# Altium schematic symbol library switch_slide.SchLib: 2 symbols
Pins are listed as number, name and electrical type; pins without a type are passive.

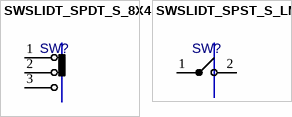
[diagram p0: symbols SWSLIDT_SPDT_S_8X4 to SWSLIDT_SPST_S_LMS]

## SWSLIDT_SPDT_S_8X4
designator SW?, comment SlideSwitch  (value not drawn)
SWITCH, SLIDE, SPDT, 8.6X4.3mm, THD; MANF_PART#: OS102011MS2QN1; MANF: C&K; DESC: DESCRIPTION; VALUE: SlideSwitch; ASSEMBLY: ASSEMBLY; PARAM: PARAM; PRICE: 0.4$
footprint SWSLIDT_SPDT_S_8X4 (Switch, Slide, SPDT, Straight, THD, 8.6X4.3mm)
pins: 1 P1, 2 P3, 3 P4

## SWSLIDT_SPST_S_LMS
designator SW?, comment SlideSwitch  (value not drawn)
SWITCH, SLIDE, SMD, SPST, THD; MANF_PART#: L101011MS02Q; MANF: C&K; DESC: DESCRIPTION; VALUE: SlideSwitch; ASSEMBLY: ASSEMBLY; PARAM: PARAM; PRICE: 1.75$
footprint SWSLIDT_SPST_S_10X4 (SW_SPST 10X4)
pins: 1 P1, 2 P3